# Altium footprint library scatbasic.PcbLib: 33 footprints (part 3 of 3)
Each footprint in its own frame and in the unit in brackets; x right, y up, seen from the top. Pads: shape width x height; smd on the part's side, far side on the other; paste and mask are expansions set on the pad; w line width, h text height; cw(c..) or ccw(c..) is an arc to the next point about the centre after c.
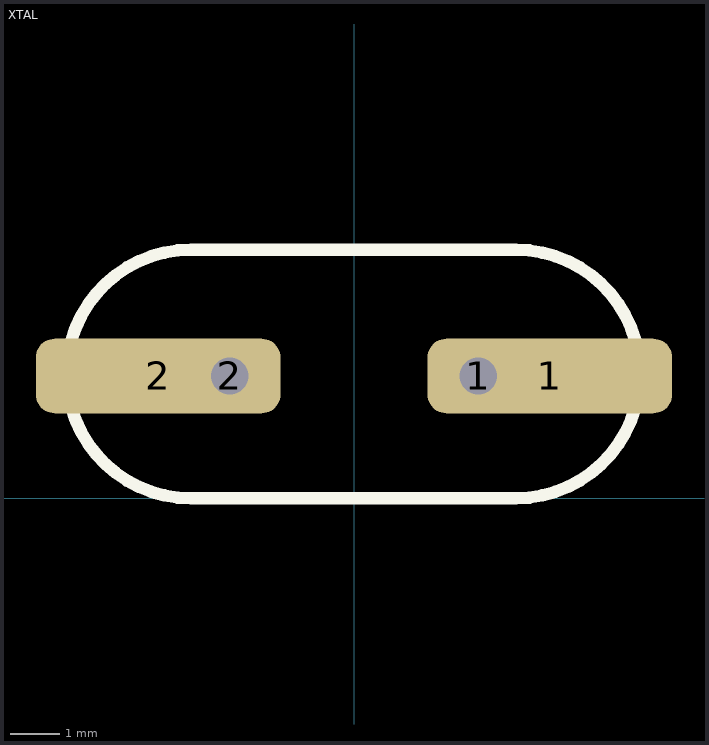
[diagram p2: the footprint, top view; thin cyan lines are the x and y axes]

## XTAL [mm]
pads (4):
  round 1.524 hole 0.762: 1(2.54,2.5) 2(-2.54,2.5)
  rrect50% 5x1.524 smd: 1(4,2.5) 2(-4,2.5)
Top Overlay:
  lines w0.254: -3.327,0 cw(c-3.327,2.54) -3.327,5.08 ; -3.302,0 3.302,0 ccw(c3.302,2.54) 3.302,5.08 ; -3.302,5.08 3.277,5.08